# Altium integrated library ds4424n&plus_.IntLib: 1 symbol
Pins are listed as number, name and electrical type; pins without a type are passive.

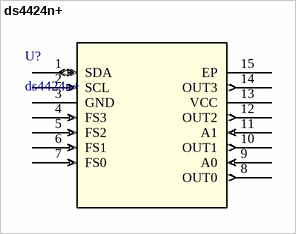
[diagram p0: symbol ds4424n+]

## ds4424n+
designator U?
Two-/Four-Channel, IÂ²C, 7-Bit Sink/Source Current DAC; Manufacturer_Name: Analog Devices Inc; Copyright: Copyright (C) 2026 Ultra Librarian. All rights reserved.; Manufacturer_Part_Number: ds4424n+; RefDes: RefDes; Type: Type
footprint 21-0137_T1433+2_MXM
pins: 1 SDA (io), 2 SCL (in), 3 GND (power), 4 FS3 (in), 5 FS2 (in), 6 FS1 (in), 7 FS0 (in), 8 OUT0 (out), 9 A0 (in), 10 OUT1 (out), 11 A1 (in), 12 OUT2 (out), 13 VCC (power), 14 OUT3 (out), 15 EP